# Altium footprint library Footprint_lib.PcbLib: 4 footprints
Each footprint in its own frame and in the unit in brackets; x right, y up, seen from the top. Pads: shape width x height; smd on the part's side, far side on the other; paste and mask are expansions set on the pad; w line width, h text height; cw(c..) or ccw(c..) is an arc to the next point about the centre after c.
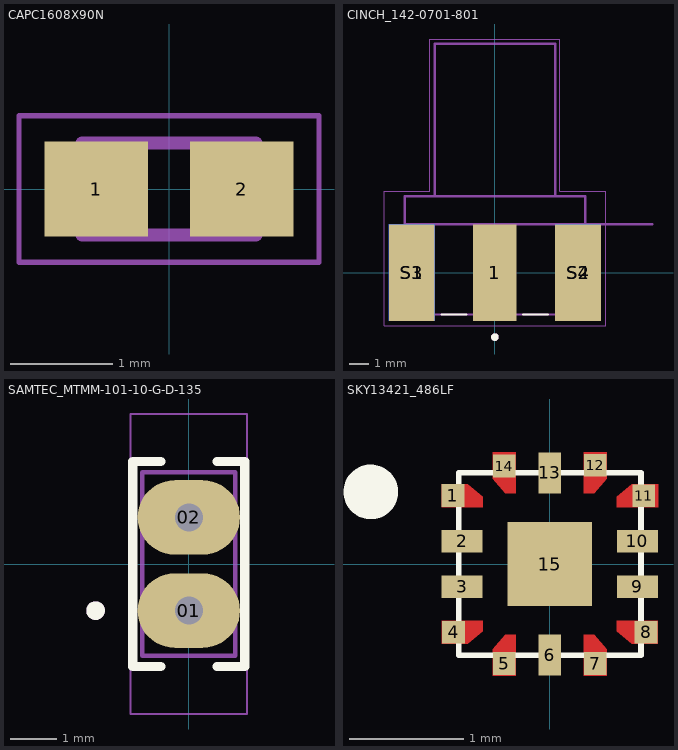
[diagram p0: the footprints below, top view; thin cyan lines are the x and y axes]

## CAPC1608X90N [mm]
pads (2):
  rect 1.01x0.93 smd: 1(-0.709,0) 2(0.709,0)
Mechanical 13:
  lines w0.127: -0.85,-0.45 0.85,-0.45 0.85,0.45 -0.85,0.45 -0.85,-0.45
Mechanical 15:
  lines w0.05: -1.465,-0.715 1.465,-0.715 1.465,0.715 -1.465,0.715 -1.465,-0.715
3D body "step_temp.STEP": height 0.9, standoff 0, extent -0.8,-0.4 0.8,0.4

## CINCH_142-0701-801 [mil]
pads (5):
  rect 90x200 smd: 1(0,0)
  rect 95x200 smd: S1(-172.5,0) S2(172.5,0)
  rect 95x200 smd far side: S3(-172.5,0) S4(172.5,0)
Top Overlay:
  circle w7.87: c0,-133.86 r3.94
  lines w5: -110.24,-87 -59.06,-87 ; 59.06,-87 110.24,-87
Mechanical 13:
  circle w7.87: c0,-133.86 r3.94
  lines w5: 188.98,100 326.77,100 ; -187.5,100 187.5,100 ; -187.5,100 -187.5,-87 187.5,-87 187.5,100 ; -187.5,100 -187.5,158.5 -125,158.5 ; -125,158.5 125,158.5 ; -125,158.5 -125,475 125,475 125,158.5 ; 125,158.5 187.5,158.5 187.5,100
Mechanical 15:
  lines w1.97: -229.84,-109.84 229.84,-109.84 229.84,168.5 134.84,168.5 134.84,484.84 -134.84,484.84 -134.84,168.5 -229.84,168.5 -229.84,-109.84
3D body "142-0701-801--3DModel-STEP-231308.STEP": height 169.78, standoff -142.22, extent -186.59,-86.8 188.41,475.2

## SAMTEC_MTMM-101-10-G-D-135 [mm]
pads (2):
  oval 2.2x1.6 hole 0.6: 01(0,-1) 02(0,1)
Top Overlay:
  circle w0.2: c-2,-1 r0.1
  lines w0.2: -0.605,-2.2 -1.2,-2.2 -1.2,2.2 -0.605,2.2 ; 0.605,-2.2 1.2,-2.2 1.2,2.2 0.605,2.2
Top Paste:
  region: 0.255,1.98 0.255,1.973 0.256,1.966 0.257,1.96 0.258,1.953 0.259,1.946 0.261,1.94 0.264,1.933 0.266,1.927 0.269,1.921 0.272,1.915 0.276,1.909 0.28,1.904 0.284,1.898 0.288,1.893 0.293,1.888 0.298,1.883 0.303,1.879 0.309,1.875 0.314,1.871 0.32,1.867 0.326,1.864 0.332,1.861 0.338,1.859 0.345,1.856 0.351,1.854 0.358,1.853 0.365,1.852 0.371,1.851 0.378,1.85 0.85,1.85 0.85,0.15 -0.85,0.15 -0.85,1.85 -0.378,1.85 -0.371,1.851 -0.365,1.852 -0.358,1.853 -0.351,1.854 -0.345,1.856 -0.338,1.859 -0.332,1.861 -0.326,1.864 -0.32,1.867 -0.314,1.871 -0.309,1.875 -0.303,1.879 -0.298,1.883 -0.293,1.888 -0.288,1.893 -0.284,1.898 -0.28,1.904 -0.276,1.909 -0.272,1.915 -0.269,1.921 -0.266,1.927 -0.264,1.933 -0.261,1.94 -0.259,1.946 -0.258,1.953 -0.257,1.96 -0.256,1.966 -0.255,1.973 -0.255,1.98 -0.255,2.97 0.255,2.97
  region: 0.85,-1.85 0.378,-1.85 0.371,-1.851 0.365,-1.852 0.358,-1.853 0.351,-1.854 0.345,-1.856 0.338,-1.859 0.332,-1.861 0.326,-1.864 0.32,-1.867 0.314,-1.871 0.309,-1.875 0.303,-1.879 0.298,-1.883 0.293,-1.888 0.288,-1.893 0.284,-1.898 0.28,-1.904 0.276,-1.909 0.272,-1.915 0.269,-1.921 0.266,-1.927 0.264,-1.933 0.261,-1.94 0.259,-1.946 0.258,-1.953 0.257,-1.96 0.256,-1.966 0.255,-1.973 0.255,-1.98 0.255,-2.97 -0.255,-2.97 -0.255,-1.98 -0.255,-1.973 -0.256,-1.966 -0.257,-1.96 -0.258,-1.953 -0.259,-1.946 -0.261,-1.94 -0.264,-1.933 -0.266,-1.927 -0.269,-1.921 -0.272,-1.915 -0.276,-1.909 -0.28,-1.904 -0.284,-1.898 -0.288,-1.893 -0.293,-1.888 -0.298,-1.883 -0.303,-1.879 -0.309,-1.875 -0.314,-1.871 -0.32,-1.867 -0.326,-1.864 -0.332,-1.861 -0.338,-1.859 -0.345,-1.856 -0.351,-1.854 -0.358,-1.853 -0.365,-1.852 -0.371,-1.851 -0.378,-1.85 -0.85,-1.85 -0.85,-0.15 0.85,-0.15
Mechanical 13:
  circle w0.2: c-2,-1 r0.1
  lines w0.1: -1,-1.97 1,-1.97 1,1.97 -1,1.97 -1,-1.97
Mechanical 15:
  lines w0.05: -1.25,-3.22 1.25,-3.22 1.25,3.22 -1.25,3.22 -1.25,-3.22
3D body "MTMM-101-10-G-D-135.stp": height 10.67, standoff -3.43, extent -1.002,-1.961 0.998,1.976

## SKY13421_486LF [mm] "DPxDT 2:1 DIFFERENTIAL SWITCH"
pads (15):
  rect 0.2x0.2 smd mask+0: 1(-0.85,0.601) 4(-0.845,-0.6) 5(-0.4,-0.874) 7(0.4,-0.874) 8(0.845,-0.6) 11(0.824,0.6) 12(0.399,0.868) 14(-0.4,0.86)
  rect 0.36x0.2 smd mask+0.07: 2(-0.77,0.2) 3(-0.77,-0.2) 9(0.769,-0.2) 10(0.769,0.2)
  rect 0.2x0.36 smd mask+0.07: 6(0,-0.8) 13(0,0.8)
  rect 0.74x0.74 smd mask+0.07: 15(0,0)
Top Layer:
  region: 0.3,0.62 0.39,0.62 0.5,0.75 0.5,0.98 0.3,0.98
  region: -0.3,0.62 -0.39,0.62 -0.5,0.75 -0.5,0.98 -0.3,0.98
  region: 0.3,-0.62 0.39,-0.62 0.5,-0.75 0.5,-0.98 0.3,-0.98
  region: -0.3,-0.62 -0.39,-0.62 -0.5,-0.75 -0.5,-0.98 -0.3,-0.98
  region: 0.59,-0.5 0.59,-0.59 0.72,-0.7 0.95,-0.7 0.95,-0.5
  region: -0.59,0.5 -0.59,0.59 -0.72,0.7 -0.95,0.7 -0.95,0.5
  region: 0.59,0.5 0.59,0.59 0.72,0.7 0.95,0.7 0.95,0.5
  region: -0.59,-0.5 -0.59,-0.59 -0.72,-0.7 -0.95,-0.7 -0.95,-0.5
Bottom Layer:
  pour cut-out: 0,0.254
  pour cut-out: 0,0.508
Top Overlay:
  circle w0.254: c-1.571,0.633 r0.113
  lines w0.05: -0.8,-0.8 0.8,-0.8 0.8,0.8 -0.8,0.8 -0.8,-0.8
3D body "intergado.step": height 0.54, standoff -0.01, extent -0.793,-0.799 0.807,0.801